# EAGLE library part AE-MICRO-SD-DIP (library PartsForProto)
マイクロＳＤカードスロットＤＩＰ化キット ヒロセ電機のｍｉｃｒｏＳＤカードスロットを ブレッドボードやユニバーサル基板に 取り付けられるようにするセットです。
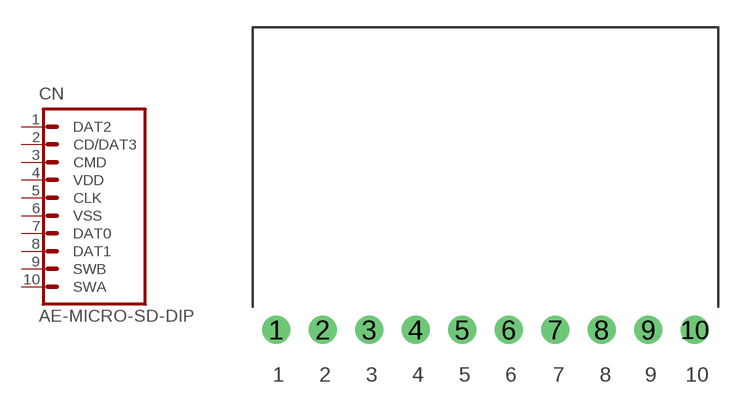
[diagram p12: symbol with the pads of AE-MICRO-SD-DIP; footprint AE-MICRO-SD-DIP]

Designator prefix CN

## AE-MICRO-SD-DIP  [AE-MICRO-SD-DIP]
1  DAT2
2  CD/DAT3
3  CMD
4  VDD  pas
5  CLK
6  VSS  pas
7  DAT0
8  DAT1
9  SWB
10  SWA

## Footprint AE-MICRO-SD-DIP (pad centres in mm)
PIN HEADER for SDCARD SLOT
drill 1.016: 1 1.27,1.27; 2 3.81,1.27; 3 6.35,1.27; 4 8.89,1.27; 5 11.43,1.27; 6 13.97,1.27; 7 16.51,1.27; 8 19.05,1.27; 9 21.59,1.27; 10 24.13,1.27